# Altium footprint library PcbLib1.PcbLib: 85 footprints (part 6 of 6)
Each footprint in its own frame and in the unit in brackets; x right, y up, seen from the top. Pads: shape width x height; smd on the part's side, far side on the other; paste and mask are expansions set on the pad; w line width, h text height; cw(c..) or ccw(c..) is an arc to the next point about the centre after c.
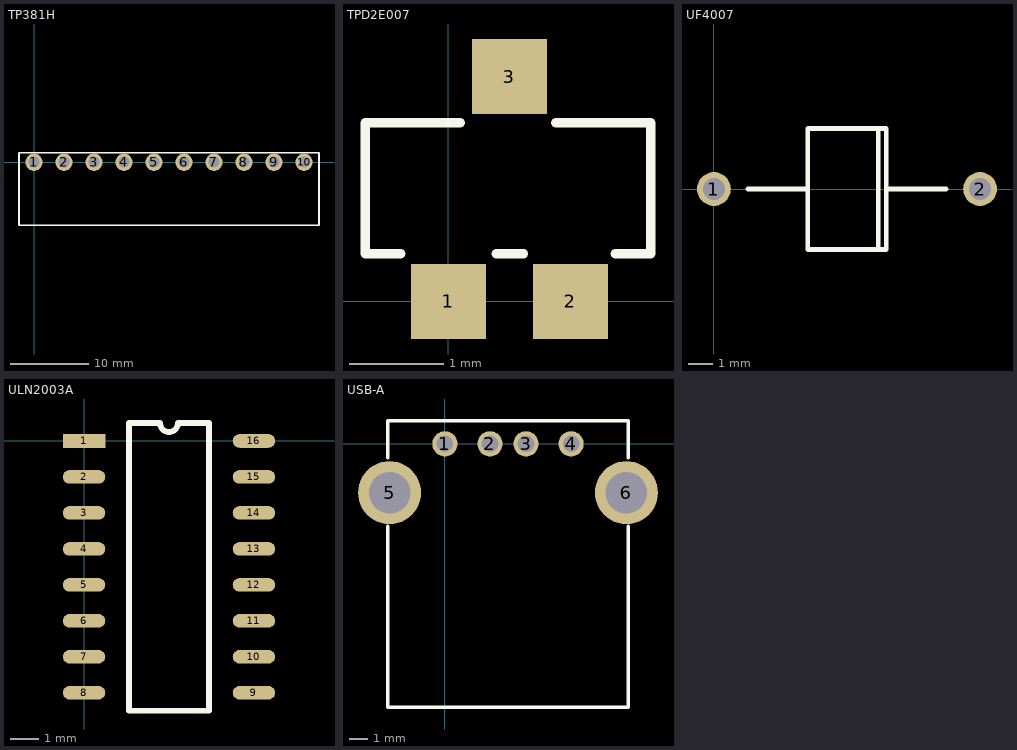
[diagram p5: the footprints below, top view; thin cyan lines are the x and y axes]

## TP381H [mm]
pads (10):
  round 2.2 hole 1.4: 1(0,0) 2(3.81,0) 3(7.62,0) 4(11.43,0) 5(15.24,0) 6(19.05,0) 7(22.86,0) 8(26.67,0) 9(30.48,0) 10(34.29,0)
Top Overlay:
  lines w0.2: -1.905,-8 36.195,-8 36.195,1.2 -1.905,1.2 -1.905,-8

## TPD2E007 [mm]
pads (3):
  rect 0.8x0.8 smd: 1(0,0) 2(1.3,0) 3(0.65,2.4)
Top Overlay:
  lines w0.1: -0.508,0.508 -0.889,0.508 -0.889,1.905 0.127,1.905 ; 0.508,0.508 0.8,0.508 ; 1.143,1.905 2.159,1.905 2.159,0.508 1.778,0.508

## UF4007 [mm]
pads (2):
  round 1.4 hole 0.9: 1(0,0) 2(11,0)
Top Overlay:
  lines w0.2: 1.4,0 3.875,0 ; 6.792,-2.5 6.792,2.5 ; 7.125,0 9.6,0 ; 3.875,0 3.875,-2.5 7.125,-2.5 7.125,2.5 3.875,2.5 3.875,0

## ULN2003A [mm]
pads (16):
  rect 1.5x0.48 smd: 1(0,0)
  oval 1.5x0.48 smd: 2(0,-1.27) 3(0,-2.54) 4(0,-3.81) 5(0,-5.08) 6(0,-6.35) 7(0,-7.62) 8(0,-8.89) 9(6,-8.89) 10(6,-7.62) 11(6,-6.35) 12(6,-5.08) 13(6,-3.81) 14(6,-2.54) 15(6,-1.27) 16(6,0)
Top Overlay:
  lines w0.2: 1.585,-9.525 1.585,0.635 2.682,0.635 ccw(c3,0.635) 3.317,0.635 4.415,0.635 4.415,-9.525 1.585,-9.525

## USB-A [mm]
pads (6):
  round 1.4 hole 0.92: 1(0,0) 2(2.5,0) 3(4.5,0) 4(7,0)
  round 3.5 hole 2.3: 5(-3.07,-2.71) 6(10.07,-2.71)
Top Overlay:
  lines w0.2: -3.175,-4.572 -3.175,-14.605 10.16,-14.605 10.16,-4.572 ; -3.175,-0.762 -3.175,1.27 10.16,1.27 10.16,-0.762